# Altium footprint library Quactel_MC60_footprint_zjebany.PcbLib: 1 footprints
Each footprint in its own frame and in the unit in brackets; x right, y up, seen from the top. Pads: shape width x height; smd on the part's side, far side on the other; paste and mask are expansions set on the pad; w line width, h text height; cw(c..) or ccw(c..) is an arc to the next point about the centre after c.
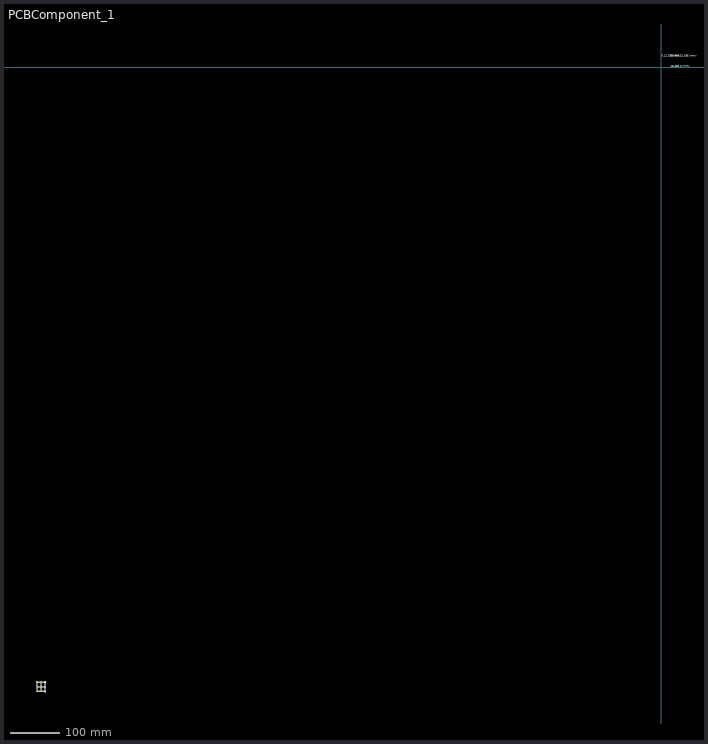
[diagram p0: the footprint, top view; thin cyan lines are the x and y axes]

## PCBComponent_1 [mm]
pads (54):
  rrect100% 2.6x0.7 smd: 1(-1268.603,-1252.363) 2(-1268.603,-1253.363) 3(-1268.603,-1254.363) 4(-1268.603,-1255.363) 5(-1268.603,-1256.363) 6(-1268.603,-1257.363) 7(-1268.603,-1258.363) 8(-1268.603,-1259.363) 9(-1268.603,-1260.363) 10(-1268.603,-1261.363) 11(-1268.603,-1262.363) 12(-1268.603,-1263.396) 13(-1268.603,-1264.412) 14(-1268.603,-1265.428) 15(-1268.603,-1266.444) 28(-1252.728,-1266.428) 29(-1252.728,-1265.412) 30(-1252.728,-1264.396) 31(-1252.728,-1263.38) 32(-1252.728,-1262.347) 33(-1252.728,-1261.347) 34(-1252.728,-1260.347) 35(-1252.728,-1259.347) 36(-1252.728,-1258.347) 37(-1252.728,-1257.347) 38(-1252.728,-1256.347) 39(-1252.728,-1255.347) 40(-1252.728,-1254.347) 41(-1252.728,-1253.347) 42(-1252.728,-1252.347)
  rrect100% 0.7x2.6 smd: 16(-1266.174,-1268.603) 17(-1265.174,-1268.603) 18(-1264.174,-1268.603) 19(-1263.174,-1268.603) 20(-1262.174,-1268.603) 21(-1261.173,-1268.603) 22(-1260.174,-1268.603) 23(-1259.173,-1268.603) 24(-1258.141,-1268.603) 25(-1257.125,-1268.603) 26(-1256.109,-1268.603) 27(-1255.093,-1268.603) 43(-1255.093,-1250.061) 44(-1256.109,-1250.061) 45(-1257.125,-1250.061) 46(-1258.141,-1250.061) 47(-1259.173,-1250.061) 48(-1260.174,-1250.061) 49(-1261.173,-1250.061) 50(-1262.174,-1250.061) 51(-1263.174,-1250.061) 52(-1264.174,-1250.061) 53(-1265.174,-1250.061) 54(-1266.174,-1250.061)
Top Overlay:
  lines w0.254: -1270.254,-1248.664 -1269.746,-1248.664 ; -1270,-1259.332 -1251.331,-1259.332 ; -1270,-1248.918 -1270,-1248.41 ; -1268.603,-1270 -1268.603,-1248.791 ; -1268.603,-1268.603 -1251.331,-1268.603 ; -1268.603,-1250.061 -1251.331,-1250.061 ; -1260.665,-1270 -1260.665,-1248.664 ; -1252.728,-1270.508 -1252.728,-1248.664 ; -1251.585,-1270 -1251.077,-1270 ; -1251.585,-1248.664 -1251.077,-1248.664 ; -1251.331,-1270.254 -1251.331,-1269.746 ; -1251.331,-1248.918 -1251.331,-1248.41
  text "18.669,0 (mm)" at 18.923,0 h1.52
  text "18.669,21.336 (mm)" at 18.923,21.336 h1.52
  text "0,21.336 (mm)" at 0.254,21.336 h1.52